# Altium schematic symbol library KL Logo.Schlib: 1 symbol
Pins are listed as number, name and electrical type; pins without a type are passive.

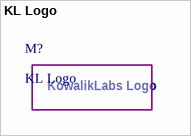
[diagram p0: symbol KL Logo]

## KL Logo
designator M?  (no BOM)
text: KowalikLabs Logo